# Altium footprint library PCB1.PcbLib: 21 footprints (part 1 of 2)
Each footprint in its own frame and in the unit in brackets; x right, y up, seen from the top. Pads: shape width x height; smd on the part's side, far side on the other; paste and mask are expansions set on the pad; w line width, h text height; cw(c..) or ccw(c..) is an arc to the next point about the centre after c.
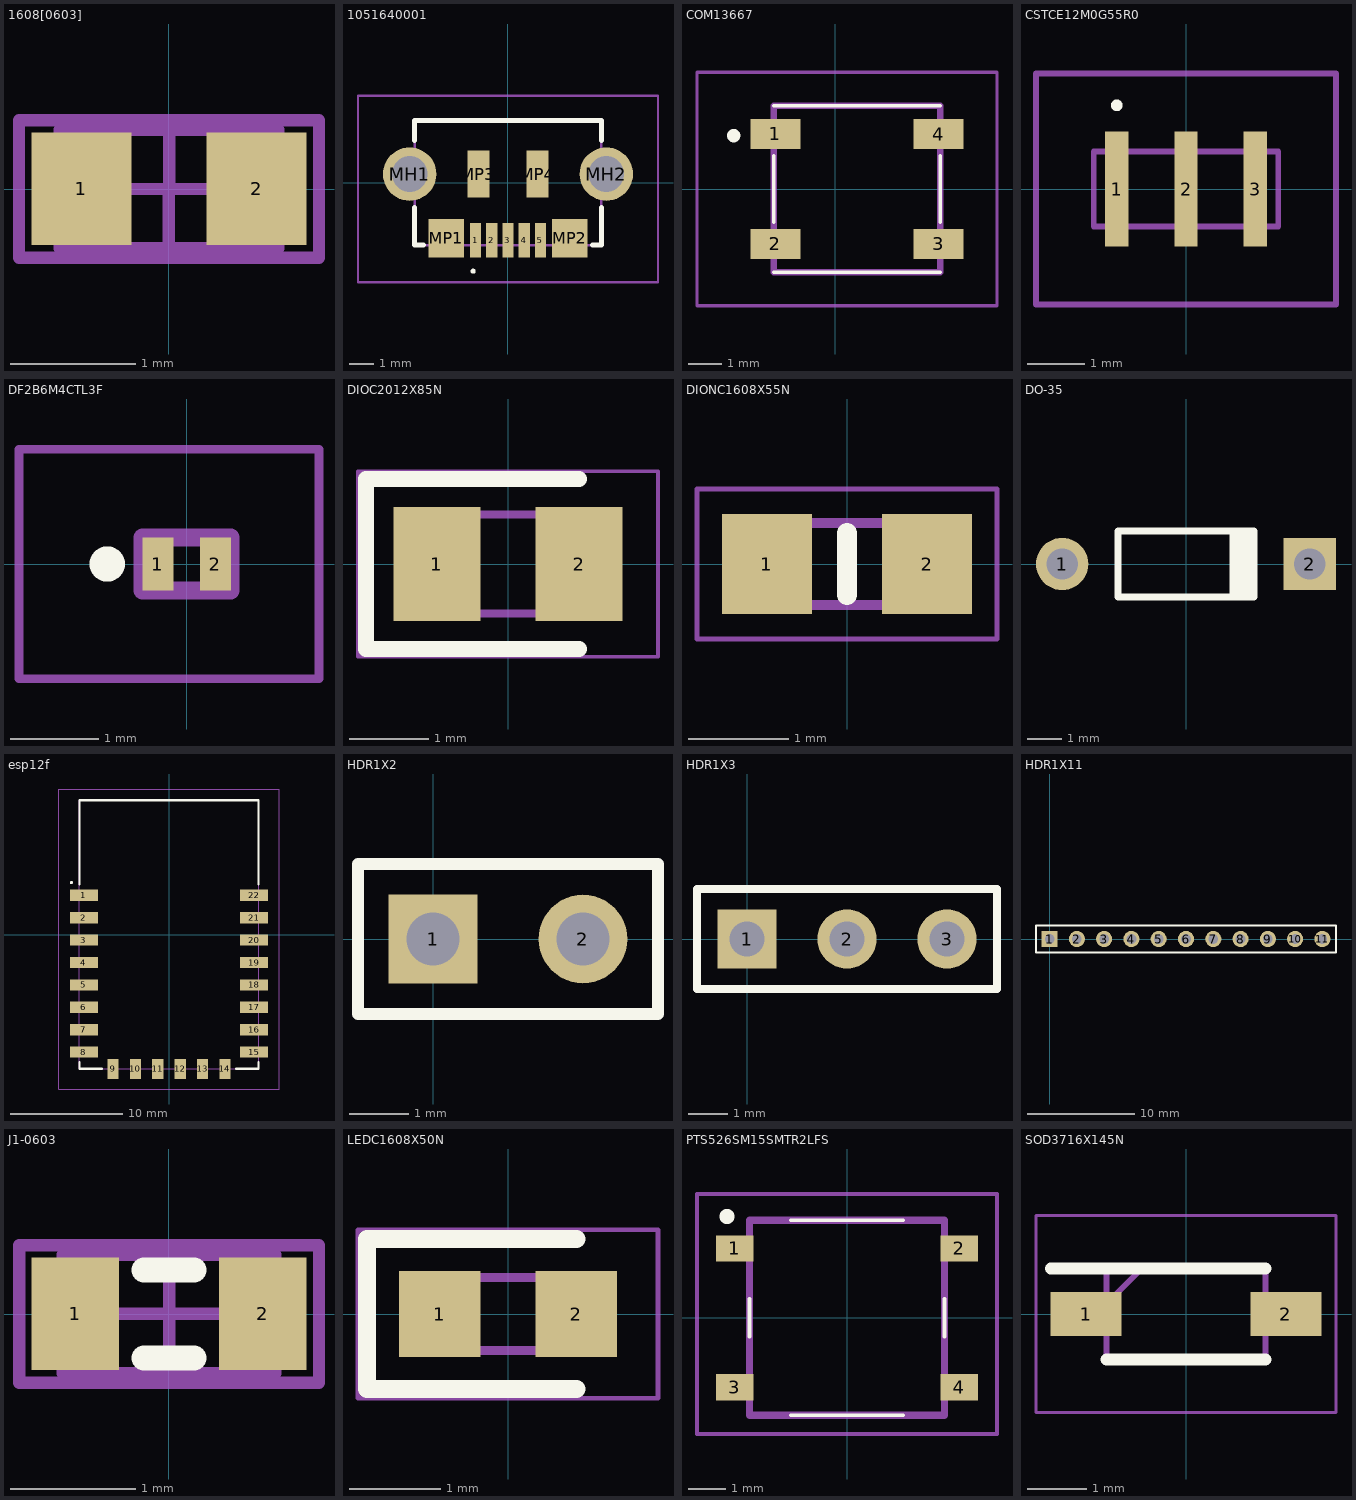
[diagram p0: the footprints below, top view; thin cyan lines are the x and y axes]

## 1608[0603] [mm] "Chip Capacitor, Body 1.6x0.8mm, IPC High Density"
height 1.3
pads (2):
  rect 0.8x0.9 smd: 1(-0.7,0) 2(0.7,0)
Mechanical 13:
  lines w0.1: -0.875,-0.475 0.875,-0.475 0.875,0.475 -0.875,0.475 -0.875,-0.475
Mechanical 15:
  lines w0.1: -0.475,0 0.475,0 ; 0,-0.475 0,0.475 ; -1.2,-0.55 1.2,-0.55 1.2,0.55 -1.2,0.55 -1.2,-0.55
3D body "Ceramic_Capacitor_0603_h32mil.step": height 0.81, standoff 0.01, extent -0.8,-0.4 0.8,0.4

## 1051640001 [mm]
pads (11):
  rect 0.45x1.38 smd: 1(-1.3,-2.31) 2(-0.65,-2.31) 3(0,-2.31) 4(0.65,-2.31) 5(1.3,-2.31)
  round 2.145 hole 1.43: MH1(-3.95,0.35) MH2(3.95,0.35)
  rect 1.425x1.55 smd: MP1(-2.487,-2.225) MP2(2.487,-2.225)
  rect 0.875x1.9 smd: MP3(-1.188,0.35) MP4(1.188,0.35)
Top Overlay:
  lines w0.1: -1.4,-3.6 cw(c-1.4,-3.55) -1.4,-3.5 cw(c-1.4,-3.55) -1.4,-3.6
  lines w0.2: -3.75,-1 -3.75,-2.5 -3.4,-2.5 ; -3.75,1.7 -3.75,2.5 3.75,2.5 3.75,1.7 ; 3.4,-2.5 3.75,-2.5 3.75,-1
Mechanical 13:
  lines w0.1: -3.75,-2.5 -3.75,2.5 3.75,2.5 3.75,-2.5 -3.75,-2.5
Mechanical 15:
  lines w0.1: -6.022,-4 -6.022,3.5 6.022,3.5 6.022,-4 -6.022,-4
3D body "105164-0001.stp": height 2.45, standoff -0.8, extent -4.136,-2.61 4.064,2.54

## COM13667 [mm]
pads (4):
  rect 1.5x0.9 smd: 1(-1.8,1.65) 2(-1.8,-1.65) 3(3.1,-1.65) 4(3.1,1.65)
Top Overlay:
  lines w0.1: -1.85,-2.5 3.15,-2.5 ; -1.85,-1 -1.85,1 ; -1.85,2.5 3.15,2.5 ; 3.15,-1 3.15,1
  lines w0.2: -3.05,1.5 ccw(c-3.05,1.6) -3.05,1.7 ccw(c-3.05,1.6) -3.05,1.5
Mechanical 13:
  lines w0.2: -1.85,-2.5 -1.85,2.5 3.15,2.5 3.15,-2.5 -1.85,-2.5
Mechanical 15:
  lines w0.1: -4.15,-3.5 -4.15,3.5 4.85,3.5 4.85,-3.5 -4.15,-3.5
3D body "WS2812B.step": height 1.6, standoff 0.03, extent -2.039,-2.54 3.309,2.46

## CSTCE12M0G55R0 [mm]
pads (3):
  rect 0.4x2 smd: 1(-1.2,0) 2(0,0) 3(1.2,0)
Top Overlay:
  lines w0.1: -1.2,1.4 cw(c-1.2,1.45) -1.2,1.5 cw(c-1.2,1.45) -1.2,1.4
Mechanical 13:
  lines w0.1: -1.6,-0.65 -1.6,0.65 1.6,0.65 1.6,-0.65 -1.6,-0.65
Mechanical 15:
  lines w0.1: -2.6,-2 -2.6,2 2.6,2 2.6,-2 -2.6,-2

## DF2B6M4CTL3F [mm]
pads (2):
  rect 0.35x0.6 smd: 1(-0.325,0) 2(0.325,0)
Top Overlay:
  lines w0.2: -1,0 ccw(c-0.9,0) -0.8,0 ccw(c-0.9,0) -1,0
Mechanical 13:
  lines w0.2: -0.5,-0.3 0.5,-0.3 0.5,0.3 -0.5,0.3 -0.5,-0.3
Mechanical 15:
  lines w0.1: -1.9,-1.3 1.5,-1.3 1.5,1.3 -1.9,1.3 -1.9,-1.3
3D body "DF2B6M4CT,L3F.stp": height 0.5, standoff 0, extent -0.5,-0.3 0.5,0.3

## DIOC2012X85N [mm]
pads (2):
  rect 1.1x1.45 smd: 1(-0.9,0) 2(0.9,0)
Top Overlay:
  lines w0.2: 0.9,-1.075 -1.8,-1.075 -1.8,1.075 0.9,1.075
Mechanical 13:
  lines w0.1: -1,0.075 -0.45,0.625 ; -1,-0.625 1,-0.625 1,0.625 -1,0.625 -1,-0.625
Mechanical 15:
  lines w0.05: -1.9,-1.175 1.9,-1.175 1.9,1.175 -1.9,1.175 -1.9,-1.175
3D body "LED_0603 v4.step": height 0.58, standoff 0.01, extent -0.858,-0.4 0.762,0.4

## DIONC1608X55N [mm]
pads (2):
  rect 0.9x1 smd: 1(-0.8,0) 2(0.8,0)
Top Overlay:
  lines w0.2: 0,-0.312 0,0.312
Mechanical 13:
  lines w0.1: -0.8,-0.412 0.8,-0.412 0.8,0.412 -0.8,0.412 -0.8,-0.412
Mechanical 15:
  lines w0.05: -1.5,-0.75 1.5,-0.75 1.5,0.75 -1.5,0.75 -1.5,-0.75
3D body "PESD0603-240.stp": height 0.55, standoff 0, extent -0.8,-0.413 0.8,0.413

## DO-35 [mm] "Diode, Axial; Body 3.8 x 1.9 mm (LxDia. max), Lead Dia. 0.53 mm (max)"
height 1.9
pads (2):
  round 1.5 hole 0.9: 1(-3.55,0)
  rect 1.5x1.5 hole 0.9: 2(3.55,0)
Top Overlay:
  rectangle: 1.25,-0.95 2.05,0.95
  lines w0.2: 1.95,-0.95 -1.95,-0.95 -1.95,0.95 1.95,0.95
3D body "Diode DO-35 Horizontal.stp": height 1.85, standoff -3, extent -3.55,-0.85 3.55,0.85

## esp12f [mm]
pads (22):
  rect 2.5x1 smd: 1(-7.6,3.5) 2(-7.6,1.5) 3(-7.6,-0.5) 4(-7.6,-2.5) 5(-7.6,-4.5) 6(-7.6,-6.5) 7(-7.6,-8.5) 8(-7.6,-10.5) 15(7.6,-10.5) 16(7.6,-8.5) 17(7.6,-6.5) 18(7.6,-4.5) 19(7.6,-2.5) 20(7.6,-0.5) 21(7.6,1.5) 22(7.6,3.5)
  rect 1x1.8 smd: 9(-5,-12) 10(-3,-12) 11(-1,-12) 12(1,-12) 13(3,-12) 14(5,-12)
Top Overlay:
  lines w0.2: -8,-11.4 -8,-12 -6,-12 ; -8,4.5 -8,12 8,12 8,4.5 ; 6,-12 8,-12 8,-11.4 ; -8.765,4.643 cw(c-8.715,4.643) -8.665,4.643 ; -8.765,4.643 ccw(c-8.715,4.643) -8.665,4.643 ; -8.765,4.643 cw(c-8.715,4.643) -8.665,4.643
Mechanical 13:
  lines w0.1: -8,-12 -8,12 8,12 8,-12 -8,-12
Mechanical 15:
  lines w0.1: -9.85,-13.8 9.85,-13.8 9.85,13 -9.85,13 -9.85,-13.8
3D body "esp-12f.stp": height 3.1, standoff 0, extent -8,-12 8,12

## HDR1X2 [mm] "Connector; Header; 2 Position"
pads (2):
  rect 1.5x1.5 hole 0.9: 1(0,0)
  round 1.5 hole 0.9: 2(2.54,0)
Top Overlay:
  lines w0.2: -1.27,-1.27 -1.27,1.27 3.81,1.27 3.81,-1.27 -1.27,-1.27

## HDR1X3 [mm] "Connector; Header; 3 Position"
pads (3):
  rect 1.5x1.5 hole 0.9: 1(0,0)
  round 1.5 hole 0.9: 2(2.54,0) 3(5.08,0)
Top Overlay:
  lines w0.2: -1.27,-1.27 6.35,-1.27 6.35,1.27 -1.27,1.27 -1.27,-1.27

## HDR1X11 [mm] "Connector; Header; 11 Position"
pads (11):
  rect 1.5x1.5 hole 0.9: 1(0,0)
  round 1.5 hole 0.9: 2(2.54,0) 3(5.08,0) 4(7.62,0) 5(10.16,0) 6(12.7,0) 7(15.24,0) 8(17.78,0) 9(20.32,0) 10(22.86,0) 11(25.4,0)
Top Overlay:
  lines w0.2: -1.27,-1.27 26.67,-1.27 26.67,1.27 0.635,1.27 -1.27,1.27 -1.27,-1.27

## J1-0603 [mm] "Chip Resistor, Body 1.6x0.8mm, IPC High Density"
height 0.9
pads (2):
  rect 0.7x0.9 smd: 1(-0.75,0) 2(0.75,0)
Top Overlay:
  lines w0.2: -0.2,-0.35 0.2,-0.35 ; -0.2,0.35 0.2,0.35
Mechanical 13:
  lines w0.1: -0.85,-0.475 0.85,-0.475 0.85,0.475 -0.85,0.475 -0.85,-0.475
Mechanical 15:
  lines w0.1: -0.475,0 0.475,0 ; 0,-0.475 0,0.475 ; -1.2,-0.55 1.2,-0.55 1.2,0.55 -1.2,0.55 -1.2,-0.55
3D body "0603.step": height 0.45, standoff 0, extent -0.8,-0.4 0.8,0.4

## LEDC1608X50N [mm]
pads (2):
  rect 0.9x0.95 smd: 1(-0.75,0) 2(0.75,0)
Top Overlay:
  lines w0.2: 0.75,-0.825 -1.55,-0.825 -1.55,0.825 0.75,0.825
Mechanical 13:
  lines w0.1: -0.8,0.133 -0.533,0.4 ; -0.8,-0.4 0.8,-0.4 0.8,0.4 -0.8,0.4 -0.8,-0.4
Mechanical 15:
  lines w0.05: -1.65,-0.925 1.65,-0.925 1.65,0.925 -1.65,0.925 -1.65,-0.925
3D body "150060GS55040.stp": height 0.4, standoff 0, extent -0.8,-0.4 0.8,0.4

## PTS526SM15SMTR2LFS [mm]
pads (4):
  rect 1x0.7 smd: 1(-3,1.85) 2(3,1.85) 3(-3,-1.85) 4(3,-1.85)
Top Overlay:
  lines w0.1: -2.6,-0.5 -2.6,0.5 ; -1.5,-2.6 1.5,-2.6 ; -1.5,2.6 1.5,2.6 ; 2.6,-0.5 2.6,0.5
  lines w0.2: -3.2,2.6 ccw(c-3.2,2.7) -3.2,2.8 ccw(c-3.2,2.7) -3.2,2.6
Mechanical 13:
  lines w0.2: -2.6,-2.6 -2.6,2.6 2.6,2.6 2.6,-2.6 -2.6,-2.6
Mechanical 15:
  lines w0.1: -4,-3.1 -4,3.3 4,3.3 4,-3.1 -4,-3.1
3D body "PTS526_SM15_SMTR2_LFS.stp": height 1.55, standoff 0, extent -3.2,-2.6 3.2,2.6

## SOD3716X145N [mm]
pads (2):
  rect 1.2x0.75 smd: 1(-1.7,0) 2(1.7,0)
Top Overlay:
  lines w0.2: -2.3,0.775 1.35,0.775 ; -1.35,-0.775 1.35,-0.775
Mechanical 13:
  lines w0.1: -1.35,0.175 -0.75,0.775 ; -1.35,-0.775 -1.35,0.775 1.35,0.775 1.35,-0.775 -1.35,-0.775
Mechanical 15:
  lines w0.05: -2.55,-1.675 -2.55,1.675 2.55,1.675 2.55,-1.675 -2.55,-1.675
3D body "1N5819HW-7-F.stp": height 1.45, standoff 0, extent -1.85,-0.775 1.85,0.775